# Altium footprint library Crystal.PcbLib: 180 footprints (part 5 of 12)
Each footprint in its own frame and in the unit in brackets; x right, y up, seen from the top. Pads: shape width x height; smd on the part's side, far side on the other; paste and mask are expansions set on the pad; w line width, h text height; cw(c..) or ccw(c..) is an arc to the next point about the centre after c.
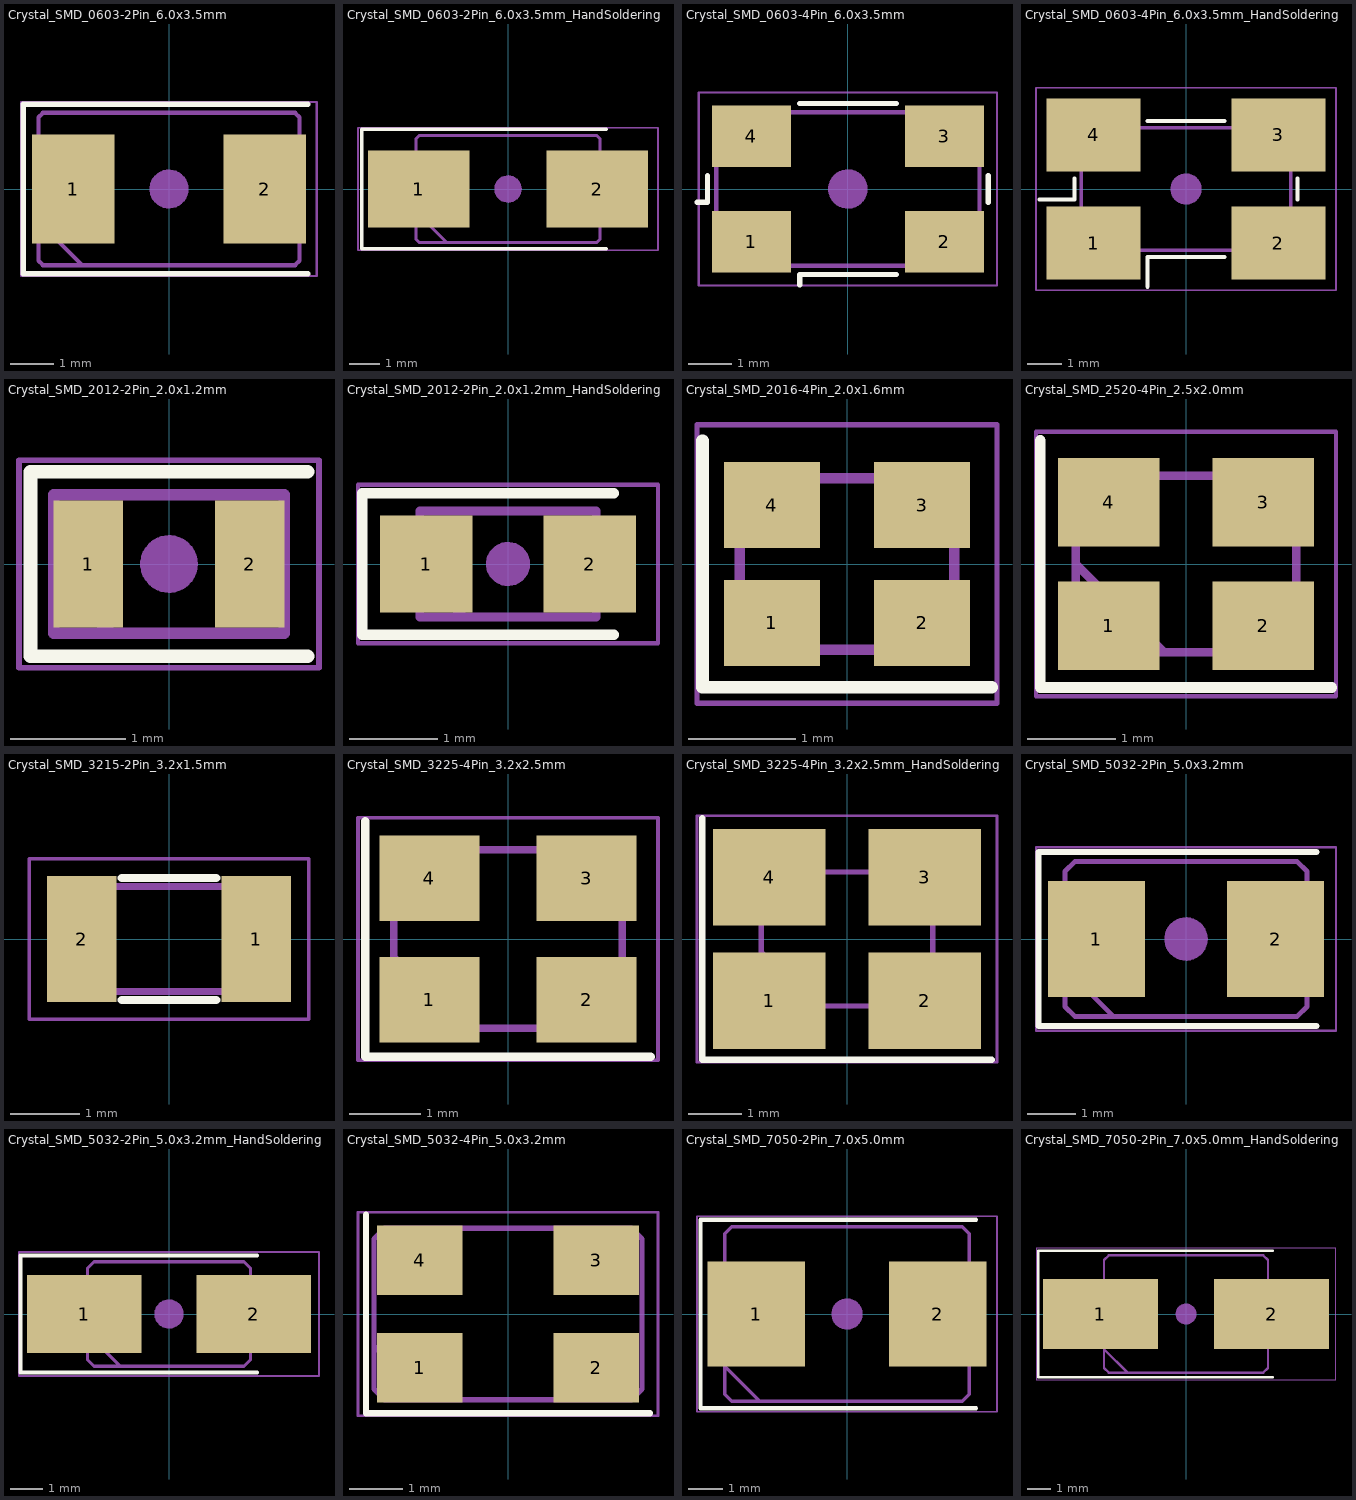
[diagram p4: the footprints below, top view; thin cyan lines are the x and y axes]

## Crystal_SMD_0603-2Pin_6.0x3.5mm [mm]
pads (2):
  rect 1.9x2.5 smd: 1(-2.2,0) 2(2.2,0)
F.SilkS:
  lines w0.12: 3.2,-1.95 -3.35,-1.95 -3.35,1.95 3.2,1.95
F.CrtYd:
  lines w0.05: -3.4,-2 -3.4,2 3.4,2 3.4,-2 -3.4,-2
F.Fab:
  lines w0.1: -3,-0.75 -2,-1.75 ; -3,-1.65 -3,1.65 -2.9,1.75 2.9,1.75 3,1.65 3,-1.65 2.9,-1.75 -2.9,-1.75 -3,-1.65
  text "'.Designator'" at -4.047,-0.84 h1
F.Adhes:
  circle w0.187: c0,0 r0.093
  circle w0.133: c0,0 r0.213
  circle w0.1: c0,0 r0.4
  circle w0.133: c0,0 r0.333
3D body "Crystal_SMD_0603-2Pin_6.0x3.5mm.step": height 1.13, standoff 0, extent -3,-1.75 3,1.75

## Crystal_SMD_0603-2Pin_6.0x3.5mm_HandSoldering [mm]
pads (2):
  rect 3.325x2.5 smd: 1(-2.913,0) 2(2.913,0)
F.SilkS:
  lines w0.12: 3.2,-1.95 -4.775,-1.95 -4.775,1.95 3.2,1.95
F.CrtYd:
  lines w0.05: -4.9,-2 -4.9,2 4.9,2 4.9,-2 -4.9,-2
F.Fab:
  lines w0.1: -3,-0.75 -2,-1.75 ; -3,-1.65 -2.9,-1.75 2.9,-1.75 3,-1.65 3,1.65 2.9,1.75 -2.9,1.75 -3,1.65 -3,-1.65
  text "'.Designator'" at -4.047,-0.84 h1
F.Adhes:
  circle w0.187: c0,0 r0.093
  circle w0.133: c0,0 r0.213
  circle w0.133: c0,0 r0.333
  circle w0.1: c0,0 r0.4
3D body "Crystal_SMD_0603-2Pin_6.0x3.5mm.step": height 1.13, standoff 0, extent -3,-1.75 3,1.75

## Crystal_SMD_0603-4Pin_6.0x3.5mm [mm]
pads (4):
  rect 1.8x1.4 smd: 1(-2.2,-1.2) 2(2.2,-1.2) 3(2.2,1.2) 4(-2.2,1.2)
F.SilkS:
  lines w0.12: -3.44,-0.3 -3.2,-0.3 -3.2,0.3 ; -1.1,-2.19 -1.1,-1.95 1.1,-1.95 ; -1.1,1.95 1.1,1.95 ; 3.2,-0.3 3.2,0.3
F.CrtYd:
  lines w0.05: -3.4,-2.2 3.4,-2.2 3.4,2.2 -3.4,2.2 -3.4,-2.2
F.Fab:
  lines w0.1: -3,-0.75 -2,-1.75 ; -3,-1.65 -2.9,-1.75 2.9,-1.75 3,-1.65 3,1.65 2.9,1.75 -2.9,1.75 -3,1.65 -3,-1.65
  text "'.Designator'" at -4.047,-0.84 h1
F.Adhes:
  circle w0.1: c0,0 r0.4
  circle w0.133: c0,0 r0.213
  circle w0.187: c0,0 r0.093
  circle w0.133: c0,0 r0.333
3D body "Crystal_SMD_0603-4Pin_6.0x3.5mm.step": height 1.03, standoff 0, extent -3,-1.75 3,1.75

## Crystal_SMD_0603-4Pin_6.0x3.5mm_HandSoldering [mm]
pads (4):
  rect 2.7x2.1 smd: 1(-2.65,-1.55) 2(2.65,-1.55) 3(2.65,1.55) 4(-2.65,1.55)
F.SilkS:
  lines w0.12: -4.2,-0.3 -3.2,-0.3 -3.2,0.3 ; -1.1,-2.8 -1.1,-1.95 1.1,-1.95 ; -1.1,1.95 1.1,1.95 ; 3.2,-0.3 3.2,0.3
F.CrtYd:
  lines w0.05: -4.3,-2.9 4.3,-2.9 4.3,2.9 -4.3,2.9 -4.3,-2.9
F.Fab:
  lines w0.1: -3,-0.75 -2,-1.75 ; -3,-1.65 -3,1.65 -2.9,1.75 2.9,1.75 3,1.65 3,-1.65 2.9,-1.75 -2.9,-1.75 -3,-1.65
  text "'.Designator'" at -4.047,-0.84 h1
F.Adhes:
  circle w0.133: c0,0 r0.333
  circle w0.187: c0,0 r0.093
  circle w0.1: c0,0 r0.4
  circle w0.133: c0,0 r0.213
3D body "Crystal_SMD_0603-4Pin_6.0x3.5mm.step": height 1.03, standoff 0, extent -3,-1.75 3,1.75

## Crystal_SMD_2012-2Pin_2.0x1.2mm [mm]
pads (2):
  rect 0.6x1.1 smd: 1(-0.7,0) 2(0.7,0)
F.SilkS:
  lines w0.12: 1.2,-0.8 -1.2,-0.8 -1.2,0.8 1.2,0.8
F.CrtYd:
  lines w0.05: -1.3,-0.9 -1.3,0.9 1.3,0.9 1.3,-0.9 -1.3,-0.9
F.Fab:
  lines w0.1: -1,-0.1 -0.5,-0.6 ; -1,-0.6 1,-0.6 1,0.6 -1,0.6 -1,-0.6
  text "'.Designator'" at -2.023,-0.42 h0.5
F.Adhes:
  circle w0.1: c0,0 r0.2
  circle w0.067: c0,0 r0.167
  circle w0.067: c0,0 r0.107
  circle w0.093: c0,0 r0.047

## Crystal_SMD_2012-2Pin_2.0x1.2mm_HandSoldering [mm]
pads (2):
  rect 1.05x1.1 smd: 1(-0.925,0) 2(0.925,0)
F.SilkS:
  lines w0.12: 1.2,-0.8 -1.65,-0.8 -1.65,0.8 1.2,0.8
F.CrtYd:
  lines w0.05: -1.7,-0.9 -1.7,0.9 1.7,0.9 1.7,-0.9 -1.7,-0.9
F.Fab:
  lines w0.1: -1,-0.1 -0.5,-0.6 ; -1,-0.6 -1,0.6 1,0.6 1,-0.6 -1,-0.6
  text "'.Designator'" at -2.023,-0.42 h0.5
F.Adhes:
  circle w0.067: c0,0 r0.107
  circle w0.093: c0,0 r0.047
  circle w0.1: c0,0 r0.2
  circle w0.067: c0,0 r0.167

## Crystal_SMD_2016-4Pin_2.0x1.6mm [mm]
pads (4):
  rect 0.9x0.8 smd: 1(-0.7,-0.55) 2(0.7,-0.55) 3(0.7,0.55) 4(-0.7,0.55)
F.SilkS:
  lines w0.12: -1.35,1.15 -1.35,-1.15 1.35,-1.15
F.CrtYd:
  lines w0.05: -1.4,-1.3 -1.4,1.3 1.4,1.3 1.4,-1.3 -1.4,-1.3
F.Fab:
  lines w0.1: -1,-0.3 -0.5,-0.8 ; -1,-0.7 -0.9,-0.8 0.9,-0.8 1,-0.7 1,0.7 0.9,0.8 -0.9,0.8 -1,0.7 -1,-0.7
  text "'.Designator'" at -2.023,-0.42 h0.5

## Crystal_SMD_2520-4Pin_2.5x2.0mm [mm]
pads (4):
  rect 1.15x1 smd: 1(-0.875,-0.7) 2(0.875,-0.7) 3(0.875,0.7) 4(-0.875,0.7)
F.SilkS:
  lines w0.12: -1.65,1.4 -1.65,-1.4 1.65,-1.4
F.CrtYd:
  lines w0.05: -1.7,-1.5 -1.7,1.5 1.7,1.5 1.7,-1.5 -1.7,-1.5
F.Fab:
  lines w0.1: -1.25,0 -0.25,-1 ; -1.25,-0.9 -1.15,-1 1.15,-1 1.25,-0.9 1.25,0.9 1.15,1 -1.15,1 -1.25,0.9 -1.25,-0.9
  text "'.Designator'" at -2.428,-0.504 h0.6

## Crystal_SMD_3215-2Pin_3.2x1.5mm [mm]
pads (2):
  rect 1x1.8 smd: 1(1.25,0) 2(-1.25,0)
F.SilkS:
  lines w0.12: -0.675,-0.875 0.675,-0.875 ; -0.675,0.875 0.675,0.875
F.CrtYd:
  lines w0.05: -2,-1.15 2,-1.15 2,1.15 -2,1.15 -2,-1.15
F.Fab:
  lines w0.1: -1.6,-0.75 1.6,-0.75 1.6,0.75 -1.6,0.75 -1.6,-0.75
  text "'.Designator'" at -4.047,1.16 h1

## Crystal_SMD_3225-4Pin_3.2x2.5mm [mm]
pads (4):
  rect 1.4x1.2 smd: 1(-1.1,-0.85) 2(1.1,-0.85) 3(1.1,0.85) 4(-1.1,0.85)
F.SilkS:
  lines w0.12: -2,1.65 -2,-1.65 2,-1.65
F.CrtYd:
  lines w0.05: -2.1,-1.7 2.1,-1.7 2.1,1.7 -2.1,1.7 -2.1,-1.7
F.Fab:
  lines w0.1: -1.6,-0.25 -0.6,-1.25 ; -1.6,-1.25 -1.6,1.25 1.6,1.25 1.6,-1.25 -1.6,-1.25
  text "'.Designator'" at -2.833,-0.588 h0.7
3D body "Crystal_SMD_3225-4Pin_3.2x2.5mm.step": height 0.64, standoff 0, extent -1.599,-1.251 1.601,1.25

## Crystal_SMD_3225-4Pin_3.2x2.5mm_HandSoldering [mm]
pads (4):
  rect 2.1x1.8 smd: 1(-1.45,-1.15) 2(1.45,-1.15) 3(1.45,1.15) 4(-1.45,1.15)
F.SilkS:
  lines w0.12: -2.7,2.25 -2.7,-2.25 2.7,-2.25
F.CrtYd:
  lines w0.05: -2.8,-2.3 -2.8,2.3 2.8,2.3 2.8,-2.3 -2.8,-2.3
F.Fab:
  lines w0.1: -1.6,-0.25 -0.6,-1.25 ; -1.6,-1.25 -1.6,1.25 1.6,1.25 1.6,-1.25 -1.6,-1.25
  text "'.Designator'" at -2.833,-0.588 h0.7
3D body "Crystal_SMD_3225-4Pin_3.2x2.5mm_HandSoldering.step": height 0.64, standoff 0, extent -1.599,-1.251 1.601,1.25

## Crystal_SMD_5032-2Pin_5.0x3.2mm [mm]
pads (2):
  rect 2x2.4 smd: 1(-1.85,0) 2(1.85,0)
F.SilkS:
  lines w0.12: 2.7,-1.8 -3.05,-1.8 -3.05,1.8 2.7,1.8
F.CrtYd:
  lines w0.05: -3.1,-1.9 3.1,-1.9 3.1,1.9 -3.1,1.9 -3.1,-1.9
F.Fab:
  lines w0.1: -2.5,-0.6 -1.5,-1.6 ; -2.5,-1.4 -2.3,-1.6 2.3,-1.6 2.5,-1.4 2.5,1.4 2.3,1.6 -2.3,1.6 -2.5,1.4 -2.5,-1.4
  text "'.Designator'" at -4.047,-0.84 h1
F.Adhes:
  circle w0.187: c0,0 r0.093
  circle w0.1: c0,0 r0.4
  circle w0.133: c0,0 r0.333
  circle w0.133: c0,0 r0.213

## Crystal_SMD_5032-2Pin_5.0x3.2mm_HandSoldering [mm]
pads (2):
  rect 3.5x2.4 smd: 1(-2.6,0) 2(2.6,0)
F.SilkS:
  lines w0.12: 2.7,-1.8 -4.55,-1.8 -4.55,1.8 2.7,1.8
F.CrtYd:
  lines w0.05: -4.6,-1.9 -4.6,1.9 4.6,1.9 4.6,-1.9 -4.6,-1.9
F.Fab:
  lines w0.1: -2.5,-0.6 -1.5,-1.6 ; -2.5,-1.4 -2.3,-1.6 2.3,-1.6 2.5,-1.4 2.5,1.4 2.3,1.6 -2.3,1.6 -2.5,1.4 -2.5,-1.4
  text "'.Designator'" at -4.047,-0.84 h1
F.Adhes:
  circle w0.1: c0,0 r0.4
  circle w0.187: c0,0 r0.093
  circle w0.133: c0,0 r0.333
  circle w0.133: c0,0 r0.213

## Crystal_SMD_5032-4Pin_5.0x3.2mm [mm]
pads (4):
  rect 1.6x1.3 smd: 1(-1.65,-1) 2(1.65,-1) 3(1.65,1) 4(-1.65,1)
F.SilkS:
  lines w0.12: -2.65,1.85 -2.65,-1.85 2.65,-1.85
F.CrtYd:
  lines w0.05: -2.8,-1.9 2.8,-1.9 2.8,1.9 -2.8,1.9 -2.8,-1.9
F.Fab:
  lines w0.1: -2.5,-0.6 -1.5,-1.6 ; -2.5,-1.4 -2.3,-1.6 2.3,-1.6 2.5,-1.4 2.5,1.4 2.3,1.6 -2.3,1.6 -2.5,1.4 -2.5,-1.4
  text "'.Designator'" at -4.047,-0.84 h1

## Crystal_SMD_7050-2Pin_7.0x5.0mm [mm]
pads (2):
  rect 2.8x3 smd: 1(-2.6,0) 2(2.6,0)
F.SilkS:
  lines w0.12: 3.7,-2.7 -4.2,-2.7 -4.2,2.7 3.7,2.7
F.CrtYd:
  lines w0.05: -4.3,-2.8 4.3,-2.8 4.3,2.8 -4.3,2.8 -4.3,-2.8
F.Fab:
  lines w0.1: -3.5,-1.5 -2.5,-2.5 ; -3.5,-2.3 -3.5,2.3 -3.3,2.5 3.3,2.5 3.5,2.3 3.5,-2.3 3.3,-2.5 -3.3,-2.5 -3.5,-2.3
  text "'.Designator'" at -4.047,-0.84 h1
F.Adhes:
  circle w0.187: c0,0 r0.093
  circle w0.1: c0,0 r0.4
  circle w0.133: c0,0 r0.213
  circle w0.133: c0,0 r0.333

## Crystal_SMD_7050-2Pin_7.0x5.0mm_HandSoldering [mm]
pads (2):
  rect 4.9x3 smd: 1(-3.65,0) 2(3.65,0)
F.SilkS:
  lines w0.12: 3.7,-2.7 -6.3,-2.7 -6.3,2.7 3.7,2.7
F.CrtYd:
  lines w0.05: -6.4,-2.8 6.4,-2.8 6.4,2.8 -6.4,2.8 -6.4,-2.8
F.Fab:
  lines w0.1: -3.5,-1.5 -2.5,-2.5 ; -3.5,-2.3 -3.5,2.3 -3.3,2.5 3.3,2.5 3.5,2.3 3.5,-2.3 3.3,-2.5 -3.3,-2.5 -3.5,-2.3
  text "'.Designator'" at -4.047,-0.84 h1
F.Adhes:
  circle w0.1: c0,0 r0.4
  circle w0.133: c0,0 r0.213
  circle w0.133: c0,0 r0.333
  circle w0.187: c0,0 r0.093